# Altium integrated library Regulator_Switching.IntLib: 22 symbols
Pins are listed as number, name and electrical type; pins without a type are passive.

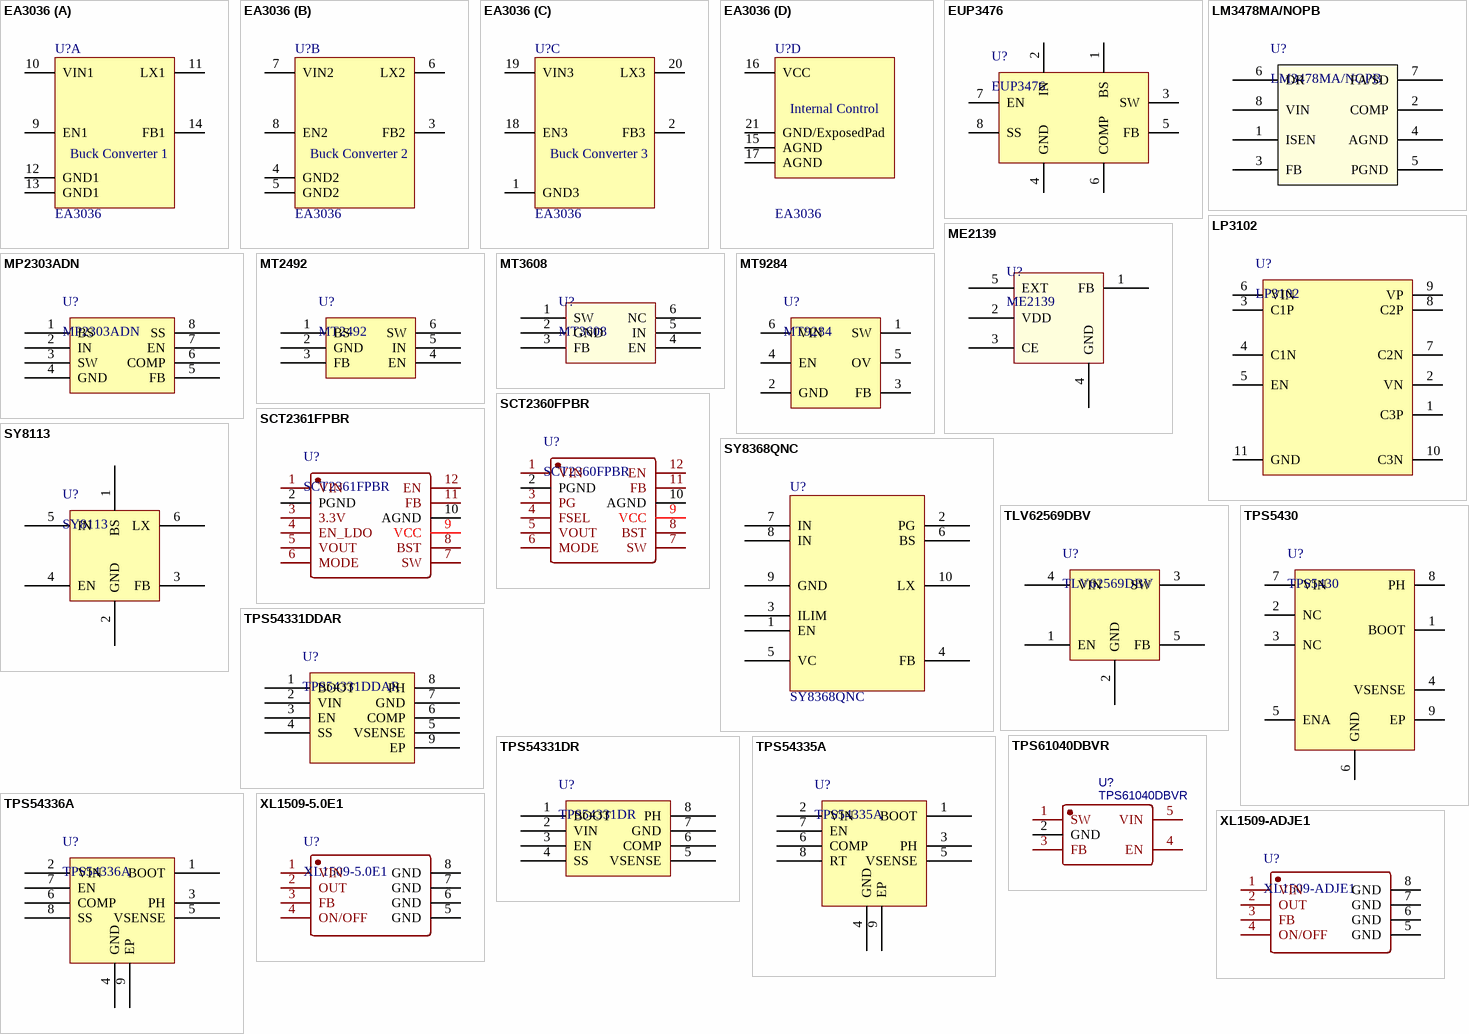
[diagram p0: symbols EA3036 to XL1509-ADJE1]

## EA3036
designator U?
EA3036 is a 3CH power management IC for applications powered by one Li-Ion battery or a DC 5V adapter.
footprint QFN-20-1EP_3x3mm_P0.4mm_EP1.6x1.6mm (QFN, 20-Leads, Body 3.00x3.00mm, Pitch 0.40mm, Thermal Pad 1.60x1.60mm, IPC Medium Density)
part A pins: 9 EN1 "CH1 turns on/turns off control input. Don’t leave this pin floating.", 10 VIN1 (power) "Power input pin of CH1. Recommended to use a 10uF MLCC capacitor between VIN1 pin and GND1 pin.", 11 LX1 "Internal MOSFET switching output of CH1. Connect LX1 pin with a low pass filter circuit to obtain a stable DC output voltage.", 12 GND1 (power) "Power ground pin of CH1.", 13 GND1 (power) "Power ground pin of CH1.", 14 FB1 "Feedback input of CH1. Connect to output voltage with a resistor divider."
part B pins: 3 FB2 "Feedback input of CH2. Connect to output voltage with a resistor divider.", 4 GND2 (power) "Power ground pin of CH2.", 5 GND2 (power) "Power ground pin of CH2.", 6 LX2 "Internal MOSFET switching output of CH2. Connect LX2 pin with a low pass filter circuit to obtain a stable DC output voltage.", 7 VIN2 (power) "Power input pin of CH2. Recommended to use a 10uF MLCC capacitor between VIN2 pin and GND2 pin.", 8 EN2 "CH2 turns on/turns off control input. Don’t leave this pin floating."
part C pins: 1 GND3 (power) "Power ground pin of CH3.", 2 FB3 "Feedback input of CH3. Connect to output voltage with a resistor divider.", 18 EN3 "CH3 turns on/turns off control input. Don’t leave this pin floating.", 19 VIN3 (power) "Power input pin of CH3. Recommended to use a 10uF MLCC capacitor between VIN3 pin and GND3 pin.", 20 LX3 "Internal MOSFET switching output of CH3. Connect SW3 pin with a low pass filter circuit to obtain a stable DC output voltage."
part D pins: 15 AGND (power) "Analog ground pin.", 16 VCC (power) "Input supply pin for internal control circuit.", 17 AGND (power) "Analog ground pin.", 21 GND/ExposedPad (power) "The Exposed Pad must be soldered to a large PCB copper plane and connected to GND for appropriate dissipation."
part A text: Buck Converter 1
part B text: Buck Converter 2
part C text: Buck Converter 3
part D text: Internal Control

## EUP3476
designator U?
3A, 28V, 500kHz Synchronous Step-Down Converter
footprint SO-8_3.9x4.9mm_P1.27mm (SOIC, 8-Leads, Body 4.9x3.90mm, Pitch 1.27mm, IPC Medium Density)
pins: 1 BS, 2 IN, 3 SW, 4 GND, 5 FB, 6 COMP, 7 EN, 8 SS

## LM3478MA/NOPB
designator U?
High Efficiency Low-Side N-Channel Controller for Switching Regulator; Manufacturer: Texas Instruments; basePN: LM3478; NSC_PackageReference: M08A; DatasheetURL: http://www.ti.com/lit/ds/symlink/lm3478.pdf; Manufacturer_Part_Number: LM3478MA/NOPB; Vendor: Texas Instruments; Copyright: Copyright (C) 2021 Accelerated Designs. All rights reserved; RefDes: RefDes; Type: DEV
footprint SO-8_3.9x4.9mm_P1.27mm (SOIC, 8-Leads, Body 4.9x3.90mm, Pitch 1.27mm, IPC Medium Density)
pins: 1 ISEN, 2 COMP, 3 FB, 4 AGND (power), 5 PGND (power), 6 DR, 7 FA/SD, 8 VIN

## LP3102
designator U?
Dual Channel Charge Pump Power Solution For TFT LCD Panel
footprint TDFN-10-1EP_3X3mm_P0.5mm_EP2.5x1.55mm (SON, 10-Leads, Body 3.00x3.00mm, Pitch 0.50mm, Thermal Pad 2.50x1.55mm, IPC Medium Density)
pins: 1 C3P, 2 VN, 3 C1P, 4 C1N, 5 EN, 6 VIN, 7 C2N, 8 C2P, 9 VP, 10 C3N, 11 GND

## ME2139
designator U?
ULTRA-SMALL PACKAGE PWM/PFM SWITCHING CONTROL STEP-UP SWITCHING REGULATOR
footprint SOT-23-5 (SOT23, 5-Leads, Body 2.90x2.45mm, Pitch 0.95mm, IPC Medium Density)
pins: 1 FB, 2 VDD, 3 CE, 4 GND, 5 EXT

## MP2303ADN
designator U?
footprint SO-8_3.9x4.9mm_P1.27mm (SOIC, 8-Leads, Body 4.9x3.90mm, Pitch 1.27mm, IPC Medium Density)
pins: 1 BS, 2 IN, 3 SW, 4 GND, 5 FB, 6 COMP, 7 EN, 8 SS

## MT2492
designator U?
600KHz, 16V，2A Synchronous Step-Down Converter
footprint SOT-23-6 (SOT23, 6-Leads, Body 2.90x2.80mm, Pitch 0.95mm, IPC Medium Density)
pins: 1 BS, 2 GND, 3 FB, 4 EN, 5 IN, 6 SW

## MT3608
designator U?
High Efficiency 1.2MHz 2A Step Up Converter
footprint SOT-23-6 (SOT23, 6-Leads, Body 2.90x2.80mm, Pitch 0.95mm, IPC Medium Density)
pins: 1 SW, 2 GND, 3 FB, 4 EN, 5 IN, 6 NC

## MT9284
designator U?
1.2MHz, High Efficiency Boost White LED Driver
footprint SOT-23-6 (SOT23, 6-Leads, Body 2.90x2.80mm, Pitch 0.95mm, IPC Medium Density)
pins: 1 SW, 2 GND, 3 FB, 4 EN, 5 OV, 6 VIN

## SCT2360FPBR
designator U?
4V-28V Vin, 6A Synchronous Step-down DCDC Converter
footprint QFN-12_L3.0-W3.0-P0.50-TL_SCT2360FPBR
pins: 1 VIN, 2 PGND, 3 PG, 4 FSEL, 5 VOUT, 6 MODE, 7 SW, 8 BST, 9 VCC, 10 AGND, 11 FB, 12 EN

## SCT2361FPBR
designator U?
4V-28V Vin, 6A Synchronous Step-down DCDC Converter Integrated with a 3.3V and 150mA LDO
footprint QFN-12_L3.0-W3.0-P0.50-TL_SCT2361FPBR
pins: 1 VIN, 2 PGND, 3 3.3V, 4 EN_LDO, 5 VOUT, 6 MODE, 7 SW, 8 BST, 9 VCC, 10 AGND, 11 FB, 12 EN

## SY8113
designator U?
High Efficiency, 500kHz, 3A, 18V Input Synchronous Step Down Regulator
footprint SOT-23-6 (SOT23, 6-Leads, Body 2.90x2.80mm, Pitch 0.95mm, IPC Medium Density)
pins: 1 BS, 2 GND, 3 FB, 4 EN, 5 IN, 6 LX

## SY8368QNC
designator U?
8A BUCK
footprint SY8368_QFN30X30-10
pins: 1 EN, 2 PG, 3 ILIM, 4 FB, 5 VC, 6 BS, 7 IN, 8 IN, 9 GND, 10 LX

## TLV62569DBV
designator U?
High Efficiency Synchronous Buck Converter, Adjustable Output 0.6V-5.5V, 2A, SOT package
footprint SOT-23-5 (SOT23, 5-Leads, Body 2.90x2.45mm, Pitch 0.95mm, IPC Medium Density)
pins: 1 EN, 2 GND, 3 SW, 4 VIN, 5 FB

## TPS5430
designator U?
TPS543x 3-A, Wide Input Range, Step-Down Converter
footprint SO-8_1EP_3.9x4.9mm_P1.27mm_EP2x3mm (SOIC, 8-Leads, Body 4.9x3.90mm, Pitch 1.27mm, IPC Medium Density)
pins: 1 BOOT, 2 NC, 3 NC, 4 VSENSE, 5 ENA, 6 GND, 7 VIN, 8 PH, 9 EP

## TPS54331DDAR
designator U?
TPS54331 3-A, 28-V Input, Step Down DC-DC Converter With Eco-mode™
footprint SO-8_1EP_3.9x4.9mm_P1.27mm_EP2x3mm (SOIC, 8-Leads, Body 4.9x3.90mm, Pitch 1.27mm, IPC Medium Density)
pins: 1 BOOT, 2 VIN, 3 EN, 4 SS, 5 VSENSE, 6 COMP, 7 GND, 8 PH, 9 EP

## TPS54331DR
designator U?
TPS54331 3-A, 28-V Input, Step Down DC-DC Converter With Eco-mode™
footprint SO-8_3.9x4.9mm_P1.27mm (SOIC, 8-Leads, Body 4.9x3.90mm, Pitch 1.27mm, IPC Medium Density)
pins: 1 BOOT, 2 VIN, 3 EN, 4 SS, 5 VSENSE, 6 COMP, 7 GND, 8 PH

## TPS54335A
designator U?
TPS54335A 4.5V 至 28V 输入、3A 输出、同步降压 DC-DC 转换器
footprint SO-8_1EP_3.9x4.9mm_P1.27mm_EP2x3mm (SOIC, 8-Leads, Body 4.9x3.90mm, Pitch 1.27mm, IPC Medium Density)
pins: 1 BOOT, 2 VIN, 3 PH, 4 GND, 5 VSENSE, 6 COMP, 7 EN, 8 RT, 9 EP

## TPS54336A
designator U?
TPS54336A 4.5V 至 28V 输入、3A 输出、同步降压 DC-DC 转换器
footprint SO-8_1EP_3.9x4.9mm_P1.27mm_EP2x3mm (SOIC, 8-Leads, Body 4.9x3.90mm, Pitch 1.27mm, IPC Medium Density)
pins: 1 BOOT, 2 VIN, 3 PH, 4 GND, 5 VSENSE, 6 COMP, 7 EN, 8 SS, 9 EP

## TPS61040DBVR
designator U?
BOM_Manufacturer: TI; BOM_Supplier: LCSC; BOM_Manufacturer Part: TPS61040DBVR; BOM_Supplier Part: C7722; BOM_JLCPCB Part Class: Basic Part; spicePre: U; spiceSymbolName: TPS61040DBVR
footprint SOT-23-5 (SOT23, 5-Leads, Body 2.90x2.45mm, Pitch 0.95mm, IPC Medium Density)
pins: 1 SW, 2 GND, 3 FB, 4 EN, 5 VIN

## XL1509-5.0E1
designator U?
5V 2A 150KHz 40V Buck DC to DC Converter
footprint SO-8_3.9x4.9mm_P1.27mm (SOIC, 8-Leads, Body 4.9x3.90mm, Pitch 1.27mm, IPC Medium Density)
pins: 1 VIN, 2 OUT, 3 FB, 4 ON/OFF, 5 GND, 6 GND, 7 GND, 8 GND

## XL1509-ADJE1
designator U?
2A 150KHz 40V Buck DC to DC Converter
footprint SO-8_3.9x4.9mm_P1.27mm (SOIC, 8-Leads, Body 4.9x3.90mm, Pitch 1.27mm, IPC Medium Density)
pins: 1 VIN, 2 OUT, 3 FB, 4 ON/OFF, 5 GND, 6 GND, 7 GND, 8 GND